# Altium footprint library PCB - CONNECTOR - HARWIN - HARWIN M20-9961045.PcbLib: 1 footprints
Each footprint in its own frame and in the unit in brackets; x right, y up, seen from the top. Pads: shape width x height; smd on the part's side, far side on the other; paste and mask are expansions set on the pad; w line width, h text height; cw(c..) or ccw(c..) is an arc to the next point about the centre after c.
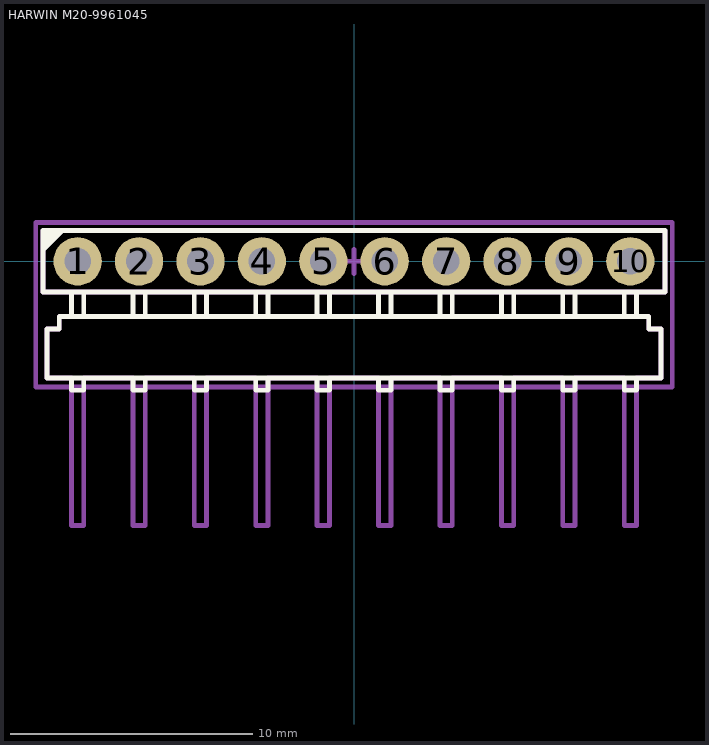
[diagram p0: the footprint, top view; thin cyan lines are the x and y axes]

## HARWIN M20-9961045 [mm] "2.54mm DIL PC TAIL PIN HEADER ASSEMBLY"
height 2.54
pads (10):
  round 2 hole 1.1: 1(-11.43,0) 2(-8.89,0) 3(-6.35,0) 4(-3.81,0) 5(-1.27,0) 6(1.27,0) 7(3.81,0) 8(6.35,0) 9(8.89,0) 10(11.43,0)
Top Overlay:
  region: -12.81,1.3 -12.81,0.4 -11.91,1.3
  lines w0.2: -12.86,1.27 -12.86,-1.27 12.86,-1.27 12.86,1.27 -12.81,1.27 ; -11.684,-4.826 -11.684,-5.334 -11.176,-5.334 -11.176,-4.826 ; -11.684,-2.286 -11.684,-1.27 ; -11.176,-2.286 -11.176,-1.27 ; -9.144,-4.826 -9.144,-5.334 -8.636,-5.334 -8.636,-4.826 ; -9.144,-2.286 -9.144,-1.27 ; -8.636,-2.286 -8.636,-1.27 ; -6.604,-4.826 -6.604,-5.334 -6.096,-5.334 -6.096,-4.826 ; -6.604,-2.286 -6.604,-1.27 ; -6.096,-2.286 -6.096,-1.27 ; -4.064,-4.826 -4.064,-5.334 -3.556,-5.334 -3.556,-4.826 ; -4.064,-2.286 -4.064,-1.27 ; -3.556,-2.286 -3.556,-1.27 ; -1.524,-4.826 -1.524,-5.334 -1.016,-5.334 -1.016,-4.826 ; -1.524,-2.286 -1.524,-1.27 ; -1.016,-2.286 -1.016,-1.27 ; 1.016,-4.826 1.016,-5.334 1.524,-5.334 1.524,-4.826 ; 1.016,-2.286 1.016,-1.27 ; 1.524,-2.286 1.524,-1.27 ; 3.556,-4.826 3.556,-5.334 4.064,-5.334 4.064,-4.826 ; 3.556,-2.286 3.556,-1.27 ; 4.064,-2.286 4.064,-1.27 ; 6.096,-4.826 6.096,-5.334 6.604,-5.334 6.604,-4.826 ; 6.096,-2.286 6.096,-1.27 ; 6.604,-2.286 6.604,-1.27 ; 8.636,-4.826 8.636,-5.334 9.144,-5.334 9.144,-4.826 ; 8.636,-2.286 8.636,-1.27 ; 9.144,-2.286 9.144,-1.27 ; 11.176,-4.826 11.176,-5.334 11.684,-5.334 11.684,-4.826 ; 11.176,-2.286 11.176,-1.27 ; 11.684,-2.286 11.684,-1.27 ; -12.7,-4.826 -12.7,-2.794 -12.192,-2.794 -12.192,-2.286 12.192,-2.286 12.192,-2.794 12.7,-2.794 12.7,-4.826 -12.7,-4.826
Top Assembly:
  lines w0.2: -11.684,-1.27 -11.684,-2.286 -12.192,-2.286 -12.192,-2.794 -12.7,-2.794 -12.7,-4.826 -11.684,-4.826 -11.684,-10.922 -11.176,-10.922 -11.176,-4.826 -9.144,-4.826 -9.144,-10.922 -8.636,-10.922 -8.636,-4.826 -6.604,-4.826 -6.604,-10.922 -6.096,-10.922 -6.096,-4.826 -4.064,-4.826 -4.064,-10.922 -3.556,-10.922 -3.556,-4.826 -1.524,-4.826 -1.524,-10.922 -1.016,-10.922 -1.016,-4.826 1.016,-4.826 1.016,-10.922 1.524,-10.922 1.524,-4.826 3.556,-4.826 3.556,-10.922 4.064,-10.922 4.064,-4.826 6.096,-4.826 6.096,-10.922 6.604,-10.922 6.604,-4.826 8.636,-4.826 8.636,-10.922 9.144,-10.922 9.144,-4.826 11.176,-4.826 11.176,-10.922 11.684,-10.922 11.684,-4.826 12.7,-4.826 12.7,-2.794 12.192,-2.794 12.192,-2.286 11.684,-2.286 11.684,-1.27 ; -0.5,0 0.5,0 ; 0,-0.5 0,0.5 ; -12.86,-1.27 -12.86,1.27 12.86,1.27 12.86,-1.27 -12.86,-1.27
Top Courtyard (Mech15):
  lines w0.2: -13.16,-5.2 13.16,-5.2 13.16,1.6 -13.16,1.6 -13.16,-5.2
3D body "HARWIN M20-9961045.step": height 2.54, standoff -3, extent -12.7,-10.9 12.7,0.32